# EAGLE library part 8-SEGMENT-4DIGIT-LED (library custom)
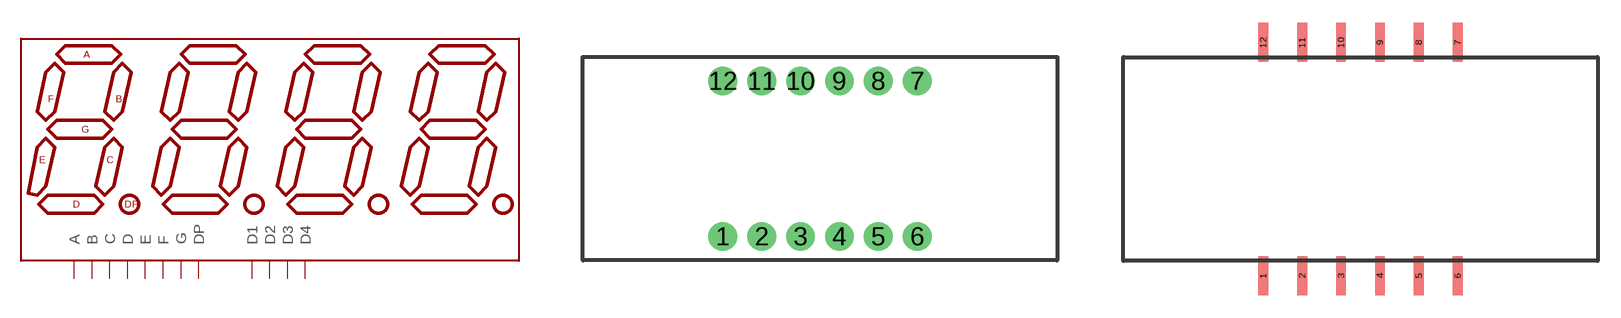
[diagram p2: symbol with the pads of 4X8-SEG-LED-PTH; footprints 4X8-SEG-LED-PTH, 4X8-SEG-LED-SMD]

Designator prefix -

## 8-SEGMENT-4DIGIT-LEDPTH  [4X8-SEG-LED-PTH]
1  E
2  D
3  DP
4  C
5  G
6  D4
7  B
8  D3
9  D2
10  F
11  A
12  D1

## 8-SEGMENT-4DIGIT-LED  [4X8-SEG-LED-SMD]
Pads as for 4X8-SEG-LED-PTH

## Footprint 4X8-SEG-LED-PTH (pad centres in mm)
drill 0.9 pad 1.88: 1 -5.08,-5.08; 2 -2.54,-5.08; 3 0,-5.08; 4 2.54,-5.08; 5 5.08,-5.08; 6 7.62,-5.08; 7 7.62,5.08; 8 5.08,5.08; 9 2.54,5.08; 10 0,5.08; 11 -2.54,5.08; 12 -5.08,5.08

## Footprint 4X8-SEG-LED-SMD (pad centres in mm)
smd 0.635 x 2.54: 1 -6.35,-7.62; 2 -3.81,-7.62; 3 -1.27,-7.62; 4 1.27,-7.62; 5 3.81,-7.62; 6 6.35,-7.62; 7 6.35,7.62; 8 3.81,7.62; 9 1.27,7.62; 10 -1.27,7.62; 11 -3.81,7.62; 12 -6.35,7.62